# Altium schematic symbol library Schlib1.SchLib: 21 symbols
Pins are listed as number, name and electrical type; pins without a type are passive.

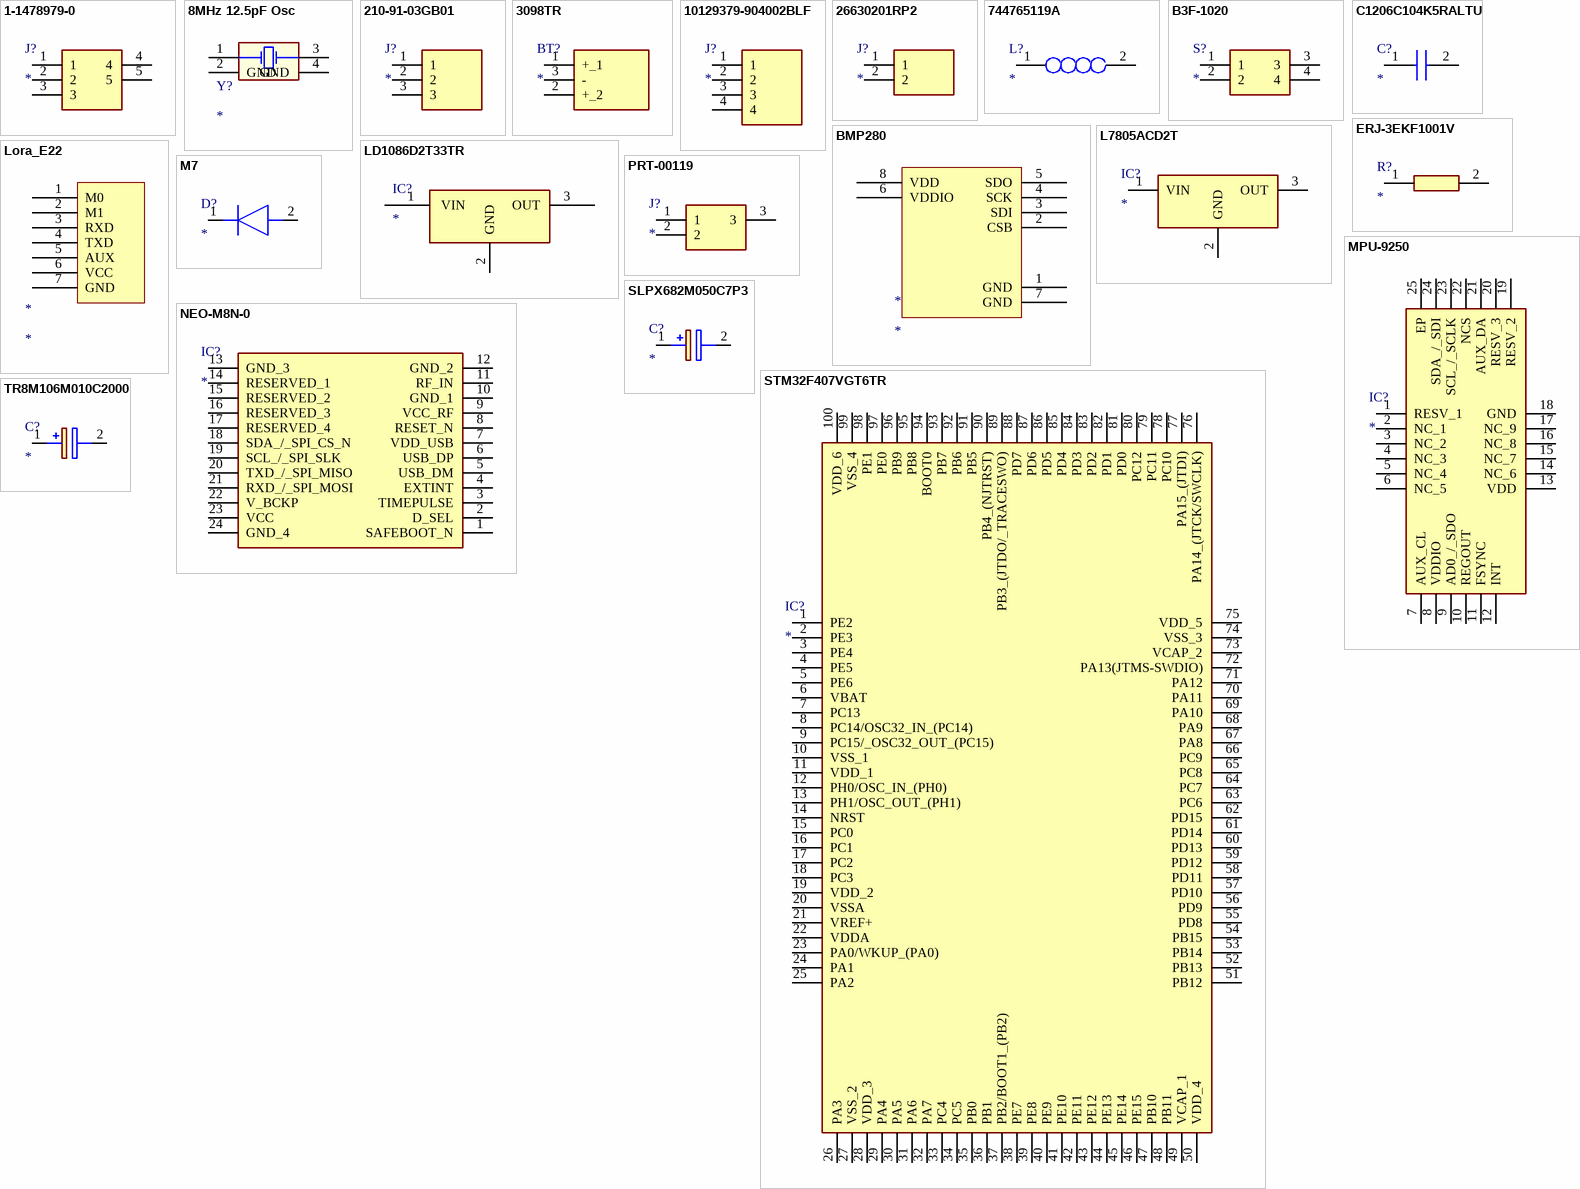
[diagram p0: symbols 1-1478979-0 to TR8M106M010C2000]

## 1-1478979-0
designator J?
Connector; Manufacturer_Name: TE Connectivity; Manufacturer_Part_Number: 1-1478979-0; Datasheet Link: http://www.te.com/commerce/DocumentDelivery/DDEController?Action=showdoc&DocId=Customer+Drawing%7F1478979%7FB%7Fpdf%7FEnglish%7FENG_CD_1478979_B.pdf%7F1-1478979-0; Mouser Part Number: 571-1-1478979-0; Mouser Price/Stock: https://www.mouser.co.uk/ProductDetail/TE-Connectivity/1-1478979-0?qs=Vcr9%2FL0R50jLfIYfi0kfuw%3D%3D; Arrow Part Number: 1-1478979-0; Arrow Price/Stock: https://www.arrow.com/en/products/1-1478979-0/te-connectivity?region=europe
footprint 114789790
pins: 1, 2, 3, 4, 5

## 8MHz 12.5pF Osc
designator Y?
footprint 8MHz 12.5pF Osc
pins: 1 (power) "Regulator Input Supply. Bypass IN to GND with a 1 uF or greater capacitor.", 2 GND (power) "Ground.", 3 "Enable Input. Drive EN high to turn on the regulator; drive it low to turn off the regulator. For automatic startup, connect EN to IN.", 4 GND "Connect a 1 nF or greater capacitor (10 nF is recommended) between BYP and GND to reduce the internal reference noise for low noise applications."

## 210-91-03GB01
designator J?
Connector; Manufacturer_Name: PINREX; Manufacturer_Part_Number: 210-91-03GB01; Description: 3A Straight Square Pins 2.5mm 6.1mm -40~+105 1 3mm 3 2.54mm Black Brass 1x3P Plugin,P=2.54mm Pin Headers ROHS; Datasheet Link: https://datasheet.lcsc.com/lcsc/1912111437_PINREX-210-91-03GB01_C390679.pdf; Height: 8.9mm
footprint HDRV3W66P0X254_1X3_737X250X890P
pins: 1, 2, 3

## 3098TR
designator BT?
Battery; Manufacturer_Name: Keystone Electronics; Manufacturer_Part_Number: 3098TR; Datasheet Link: https://www.keyelco.com/product-pdf.cfm?p=3958; Height: 3.05mm; Mouser Part Number: 534-3098TR; Mouser Price/Stock: https://www.mouser.co.uk/ProductDetail/Keystone-Electronics/3098TR?qs=BMR1h6ig6pBw2SwGeQy5sw%3D%3D
footprint 3098TR
pins: 1 +_1, 2 +_2, 3 -

## 10129379-904002BLF
designator J?
Connector; Manufacturer_Name: Amphenol Communications Solutions; Manufacturer_Part_Number: 10129379-904002BLF; Description: EconoStik 2.54mm; Datasheet Link: https://cdn.amphenol-cs.com/media/wysiwyg/files/drawing/10129379.pdf; Height: 2.41mm; Mouser Part Number: 649-1012937990402BLF; Mouser Price/Stock: https://www.mouser.co.uk/ProductDetail/Amphenol-FCI/10129379-904002BLF?qs=0lQeLiL1qybYsOE3kPCMFA%3D%3D
footprint HDRRA4W67P0X254_1X4_1016X254X241P
pins: 1, 2, 3, 4

## 26630201RP2
designator J?
Connector; Manufacturer_Name: NorComp; Manufacturer_Part_Number: 26630201RP2; Datasheet Link: https://datasheet.datasheetarchive.com/originals/dk/DKDS-31/606291.pdf; Height: 5.563mm; Mouser Part Number: 636-26630201RP2; Mouser Price/Stock: https://www.mouser.co.uk/ProductDetail/NorComp/26630201RP2?qs=TaIhzdgpGpXrxdLS9EY2Xg%3D%3D
footprint HDRV2W51P0X201_1X2_500X201X556P
pins: 1, 2

## 744765119A
designator L?
Inductor; Manufacturer_Name: Wurth Elektronik; Manufacturer_Part_Number: 744765119A; Mouser Part Number: 710-744765119A; Mouser Price/Stock: https://www.mouser.co.uk/ProductDetail/Wurth-Elektronik/744765119A?qs=MVRUG6Lt7nGGidQwVT5k2g%3D%3D
footprint WE-KI_0402A30
pins: 1, 2

## B3F-1020
designator S?
Switch; Manufacturer_Name: Omron Electronics; Manufacturer_Part_Number: B3F-1020; Datasheet Link: http://www.omron.com/ecb/products/pdf/en-b3f.pdf; Mouser Part Number: 653-B3F-1020; Mouser Price/Stock: https://www.mouser.co.uk/ProductDetail/Omron-Electronics/B3F-1020?qs=lK7M36XCk6J1%2FfWxwEHrqA%3D%3D; Arrow Part Number: B3F-1020; Arrow Price/Stock: https://www.arrow.com/en/products/b3f-1020/omron?region=europe
footprint B3F1000
pins: 1, 2, 3, 4

## BMP280
designator *
footprint BMP280
pins: 1 GND, 2 CSB, 3 SDI, 4 SCK, 5 SDO, 6 VDDIO, 7 GND, 8 VDD

## C1206C104K5RALTU
designator C?
Capacitor; Manufacturer_Name: KEMET; Manufacturer_Part_Number: C1206C104K5RALTU; Datasheet Link: https://content.kemet.com/datasheets/KEM_C1018_X7R_SnPb_SMD.pdf; Mouser Part Number: 80-C1206C104K5RAL; Mouser Price/Stock: https://www.mouser.co.uk/ProductDetail/KEMET/C1206C104K5RALTU?qs=8Ej%2FxtLsO2lb2phBuiebIQ%3D%3D; Arrow Part Number: C1206C104K5RALTU; Arrow Price/Stock: https://www.arrow.com/en/products/c1206c104k5raltu/kemet-corporation?region=nac
footprint C1206
pins: 1, 2

## ERJ-3EKF1001V
designator R?
Resistor; Manufacturer_Name: Panasonic; Manufacturer_Part_Number: ERJ-3EKF1001V; Datasheet Link: http://industrial.panasonic.com/cdbs/www-data/pdf/RDA0000/AOA0000C86.pdf; Height: 0.55mm; Mouser Part Number: 667-ERJ-3EKF1001V; Mouser Price/Stock: https://www.mouser.co.uk/ProductDetail/Panasonic/ERJ-3EKF1001V?qs=H7k1u0Mp9JTM8yQxOuvoDg%3D%3D; Arrow Part Number: ERJ-3EKF1001V; Arrow Price/Stock: https://www.arrow.com/en/products/erj-3ekf1001v/panasonic?region=europe
footprint RESC1608X55N
pins: 1, 2

## L7805ACD2T
designator IC?
Integrated Circuit; Manufacturer_Name: STMicroelectronics; Manufacturer_Part_Number: L7805ACD2T; Datasheet Link: https://componentsearchengine.com/Datasheets/1/L7805ACD2T.pdf; Height: 4mm; Mouser Part Number: 511-L7805ACD2T; Mouser Price/Stock: https://www.mouser.co.uk/ProductDetail/STMicroelectronics/L7805ACD2T?qs=f9uBznyCLhZ5tRIsM0TDkA%3D%3D
footprint STB20N95K5
pins: 1 VIN, 2 GND, 3 OUT

## LD1086D2T33TR
designator IC?
Integrated Circuit; Manufacturer_Name: STMicroelectronics; Manufacturer_Part_Number: LD1086D2T33TR; Datasheet Link: http://www.st.com/web/en/resource/technical/document/datasheet/CD00001884.pdf; Height: 4.6mm; Mouser Part Number: 511-LD1086D2T33-TR; Mouser Price/Stock: https://www.mouser.co.uk/ProductDetail/STMicroelectronics/LD1086D2T33TR?qs=NVtqiPcHxP%2FqlwvBP9ORAw%3D%3D; Arrow Part Number: LD1086D2T33TR; Arrow Price/Stock: https://www.arrow.com/en/products/ld1086d2t33tr/stmicroelectronics?region=europe
footprint TS78M05CP
pins: 1  VIN, 2 GND (power), 3 OUT

## Lora_E22
designator *
footprint Lora_E22
pins: 1 M0, 2 M1, 3 RXD, 4 TXD, 5 AUX, 6 VCC, 7 GND

## M7
designator D?
Diode; Manufacturer_Name: LGE; Manufacturer_Part_Number: M7; Datasheet Link: https://datasheet.lcsc.com/szlcsc/LGE-M7-SMAJ_C330214.pdf; Height: 2.45mm
footprint DIOM5626X245N
pins: 1 K, 2 A

## MPU-9250
designator IC?
Integrated Circuit; Manufacturer_Name: TDK; Datasheet Link: https://media.digikey.com/pdf/Data%20Sheets/TDK%20PDFs/MPU-9250_Rev_1.1.pdf; Height: 1.05mm; Manufacturer_Part_Number: MPU-9250; Mouser Part Number: 410-MPU-9250; Mouser Price/Stock: https://www.mouser.co.uk/ProductDetail/TDK-InvenSense/MPU-9250?qs=u4fy%2FsgLU9OhGjFkQSZssA%3D%3D
footprint QFN40P300X300X105-25N-D
pins: 1 RESV_1, 2 NC_1, 3 NC_2, 4 NC_3, 5 NC_4, 6 NC_5, 7 AUX_CL, 8 VDDIO, 9 AD0_/_SDO, 10 REGOUT, 11 FSYNC, 12 INT, 13 VDD, 14 NC_6, 15 NC_7, 16 NC_8, 17 NC_9, 18 GND, 19 RESV_2, 20 RESV_3, 21 AUX_DA, 22 NCS, 23 SCL_/_SCLK, 24 SDA_/_SDI, 25 EP

## NEO-M8N-0
designator IC?
Integrated Circuit; Manufacturer_Name: U-Blox; Manufacturer_Part_Number: NEO-M8N-0; Datasheet Link: https://www.u-blox.com/sites/default/files/NEO-M8-FW3_DataSheet_%28UBX-15031086%29.pdf; Mouser Part Number: 377-NEO-M8N-0; Mouser Price/Stock: https://www.mouser.co.uk/ProductDetail/u-blox/NEO-M8N-0?qs=zW32dvEIR3unZhZI0KRbew%3D%3D
footprint NEO-M8T
pins: 1 SAFEBOOT_N, 2 D_SEL, 3 TIMEPULSE, 4 EXTINT, 5 USB_DM, 6 USB_DP, 7 VDD_USB, 8 RESET_N, 9 VCC_RF, 10 GND_1, 11 RF_IN, 12 GND_2, 13 GND_3, 14 RESERVED_1, 15 RESERVED_2, 16 RESERVED_3, 17 RESERVED_4, 18 SDA_/_SPI_CS_N, 19 SCL_/_SPI_SLK, 20 TXD_/_SPI_MISO, 21 RXD_/_SPI_MOSI, 22 V_BCKP, 23 VCC, 24 GND_4

## PRT-00119
designator J?
Connector; Manufacturer_Name: SparkFun; Manufacturer_Part_Number: PRT-00119; Datasheet Link: https://www.sparkfun.com/datasheets/Prototyping/Barrel-Connector-PJ-202A.pdf; Height: 11mm; Mouser Part Number: 474-PRT-00119; Mouser Price/Stock: https://www.mouser.co.uk/ProductDetail/SparkFun/PRT-00119?qs=WyAARYrbSnbnQpS9xf%252Bx5A%3D%3D; Arrow Part Number: PRT-00119; Arrow Price/Stock: https://www.arrow.com/en/products/prt-00119/sparkfun-electronics?region=nac
footprint PRT00119
pins: 1, 2, 3

## SLPX682M050C7P3
designator C?
Capacitor Polarised; Manufacturer_Name: Cornell Dubilier; Manufacturer_Part_Number: SLPX682M050C7P3; Datasheet Link: https://componentsearchengine.com/Datasheets/2/SLPX682M050C7P3.pdf; Height: 42mm
footprint CAPPRD1000W210D2550H4200
pins: 1 +, 2 -

## STM32F407VGT6TR
designator IC?
Integrated Circuit; Manufacturer_Name: STMicroelectronics; Manufacturer_Part_Number: STM32F407VGT6TR; Datasheet Link: https://www.st.com/resource/en/datasheet/stm32f407vg.pdf; Height: 1.6mm; Mouser Part Number: 511-STM32F407VGT6TR; Mouser Price/Stock: https://www.mouser.co.uk/ProductDetail/STMicroelectronics/STM32F407VGT6TR?qs=gNDSiZmRJS%2Fm459dFMQZBA%3D%3D; Arrow Part Number: STM32F407VGT6TR; Arrow Price/Stock: https://www.arrow.com/en/products/stm32f407vgt6tr/stmicroelectronics?region=nac
footprint QFP50P1600X1600X160-100N
pins: 1 PE2, 2 PE3, 3 PE4, 4 PE5, 5 PE6, 6 VBAT, 7 PC13, 8 PC14/OSC32_IN_(PC14), 9 PC15/_OSC32_OUT_(PC15), 10 VSS_1, 11 VDD_1, 12 PH0/OSC_IN_(PH0), 13 PH1/OSC_OUT_(PH1), 14 NRST, 15 PC0, 16 PC1, 17 PC2, 18 PC3, 19 VDD_2, 20 VSSA, 21 VREF+, 22 VDDA, 23 PA0/WKUP_(PA0), 24 PA1, 25 PA2, 26 PA3, 27 VSS_2, 28 VDD_3, 29 PA4, 30 PA5, 31 PA6, 32 PA7, 33 PC4, 34 PC5, 35 PB0, 36 PB1, 37 PB2/BOOT1_(PB2), 38 PE7, 39 PE8, 40 PE9, 41 PE10, 42 PE11, 43 PE12, 44 PE13, 45 PE14, 46 PE15, 47 PB10, 48 PB11, 49 VCAP_1, 50 VDD_4, 51 PB12, 52 PB13, 53 PB14, 54 PB15, 55 PD8, 56 PD9, 57 PD10, 58 PD11, 59 PD12, 60 PD13, 61 PD14, 62 PD15, 63 PC6, 64 PC7, 65 PC8, 66 PC9, 67 PA8, 68 PA9, 69 PA10, 70 PA11, 71 PA12, 72 PA13(JTMS-SWDIO), 73 VCAP_2, 74 VSS_3, 75 VDD_5, 76 PA14_(JTCK/SWCLK), 77 PA15_(JTDI), 78 PC10, 79 PC11, 80 PC12, 81 PD0, 82 PD1, 83 PD2, 84 PD3, 85 PD4, 86 PD5, 87 PD6, 88 PD7, 89 PB3_(JTDO/_TRACESWO), 90 PB4_(NJTRST), 91 PB5, 92 PB6, 93 PB7, 94 BOOT0, 95 PB8, 96 PB9, 97 PE0, 98 PE1, 99 VSS_4, 100 VDD_6

## TR8M106M010C2000
designator C?
Capacitor Polarised; Manufacturer_Name: Vishay; Manufacturer_Part_Number: TR8M106M010C2000; Datasheet Link: https://www.vishay.com/docs/40114/tr8.pdf; Height: 0.9mm; Mouser Part Number: 74-TR8M106M010C2000; Mouser Price/Stock: https://www.mouser.co.uk/ProductDetail/Vishay-Sprague/TR8M106M010C2000/?qs=A6MsUmktA0wQ2FaijS70cA%3D%3D; Arrow Part Number: TR8M106M010C2000; Arrow Price/Stock: https://www.arrow.com/en/products/tr8m106m010c2000/vishay
footprint CAPPM168X90N
pins: 1 +, 2 -